# Altium schematic symbol library DG300-5.0-02P-12.SchLib: 1 symbol
Pins are listed as number, name and electrical type; pins without a type are passive.

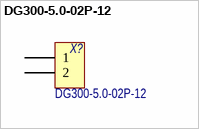
[diagram p0: symbol DG300-5.0-02P-12]

## DG300-5.0-02P-12
designator X?
2-pin connector with screw clamp; Потребление, Вт: 0; Назначение: 2-pin connector with screw clamp; ComponentLink1Description: Datasheet; ComponentLink1URL: https://static.chipdip.ru/lib/388/DOC009388348.pdf; Наименование: DG300-5.0-02P-12
footprint DG300-5.0-02P-12
pins: 1, 2